# EAGLE library part MAX6817 (library ERIC)
MAX6817 ±15kV ESD-Protected, Dual, CMOS Switch Debouncers
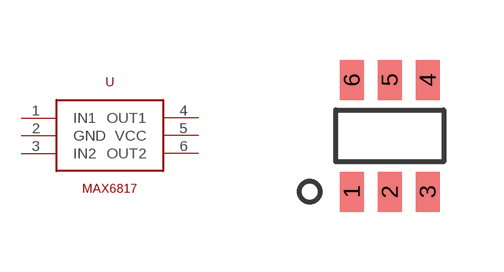
[diagram p21: symbol with the pads of SOT-23-6; footprint SOT-23-6]

Designator prefix -

## MAX6817  [SOT-23-6]
1  IN1
2  GND
3  IN2
4  OUT1
5  VCC
6  OUT2

## Footprint SOT-23-6 (pad centres in mm)
6-Lead Plastic Small Outline Transistor (OT) [SOT-23] from Microchip Page 64
smd 0.6 x 1: 1 -0.95,-1.4; 2 0,-1.4; 3 0.95,-1.4; 4 0.95,1.4; 5 0,1.4; 6 -0.95,1.4